# Altium schematic symbol library sm_connector.SchLib: 8 symbols
Pins are listed as number, name and electrical type; pins without a type are passive.

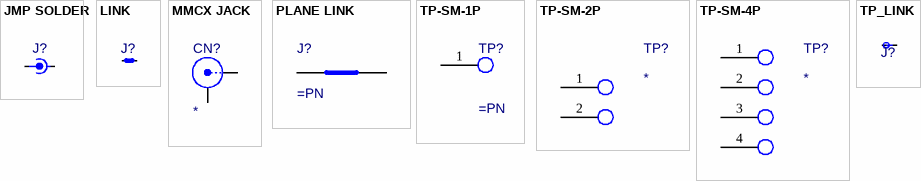
[diagram p0: symbols JMP SOLDER to TP_LINK]

## JMP SOLDER
designator J?  (no BOM)
Solder Jumper
footprint JMP-SOLDER-0.2MM (Jumper solder 0.2mm)
pins: 1, 2

## LINK
designator J?  (net tie, no BOM)
Net Link
footprint LINK-0.2MM (Link 0.3mm)
footprint LINK-0.25MM (Link 0.25mm)
footprint LINK-0.3MM (Link 0.3mm)
pins: 1, 2

## MMCX JACK
designator CN?
MMCX Jack; PN: *; Value: *; ExtraInfo: *
footprint MMCX JACK
pins: 1 X, 2 Y

## PLANE LINK
designator J?  (net tie, no BOM)
PLANE LINK
footprint PL-1MM (Plane Link 1mm)
footprint PL-2MM (Plane Link 2mm)
footprint PL-0.5MM (Plane Link 0.5mm)
footprint PL-0.3MM (Plane Link 0.3mm)
footprint PL-3MM (Plane Link 3mm)
footprint PL-4MM (Plane Link 4mm)
pins: 1, 2

## TP-SM-1P
designator TP?  (no BOM)
Test Point 1 Position
footprint SM-TP-1.27-1 (SM Test Point - 1.27mm)
footprint SM-TP-1.5X1.5MM-SQ (SM Test Point - 1.5x1.5mm Square)
footprint SM-TP-2X2MM-SQ (SM Test Point - 2.0x2.0mm Square)
footprint SM-TP-1.0MM-R (SM Test Point - 1.0mm Round)
footprint SM-TP-1.5MM-R (SM Test Point - 1.5mm Round)
footprint SM-TP-1.5MM-S (SM Test Point - 1.5mm Square)
pins: 1

## TP-SM-2P
designator TP?  (no BOM)
Test Point 2 Positions
footprint SM-TP-1.27-2 (SM Dual Test Point - 1.27mm)
footprint SM-TP-2.5-2 (SM Dual Test Point - 2.5mm)
pins: 1, 2

## TP-SM-4P
designator TP?  (no BOM)
Test Point 4 Positions
footprint SM-TP-1.27-4 (SM 4 Test Point - 1.27mm)
pins: 1, 2, 3, 4

## TP_LINK
designator J?  (net tie, no BOM)
Net Link
footprint LINK-TP-0.2MM (Link 0.3mm)
pins: 1, 2